# Altium footprint library stm8.PcbLib: 15 footprints
Each footprint in its own frame and in the unit in brackets; x right, y up, seen from the top. Pads: shape width x height; smd on the part's side, far side on the other; paste and mask are expansions set on the pad; w line width, h text height; cw(c..) or ccw(c..) is an arc to the next point about the centre after c.
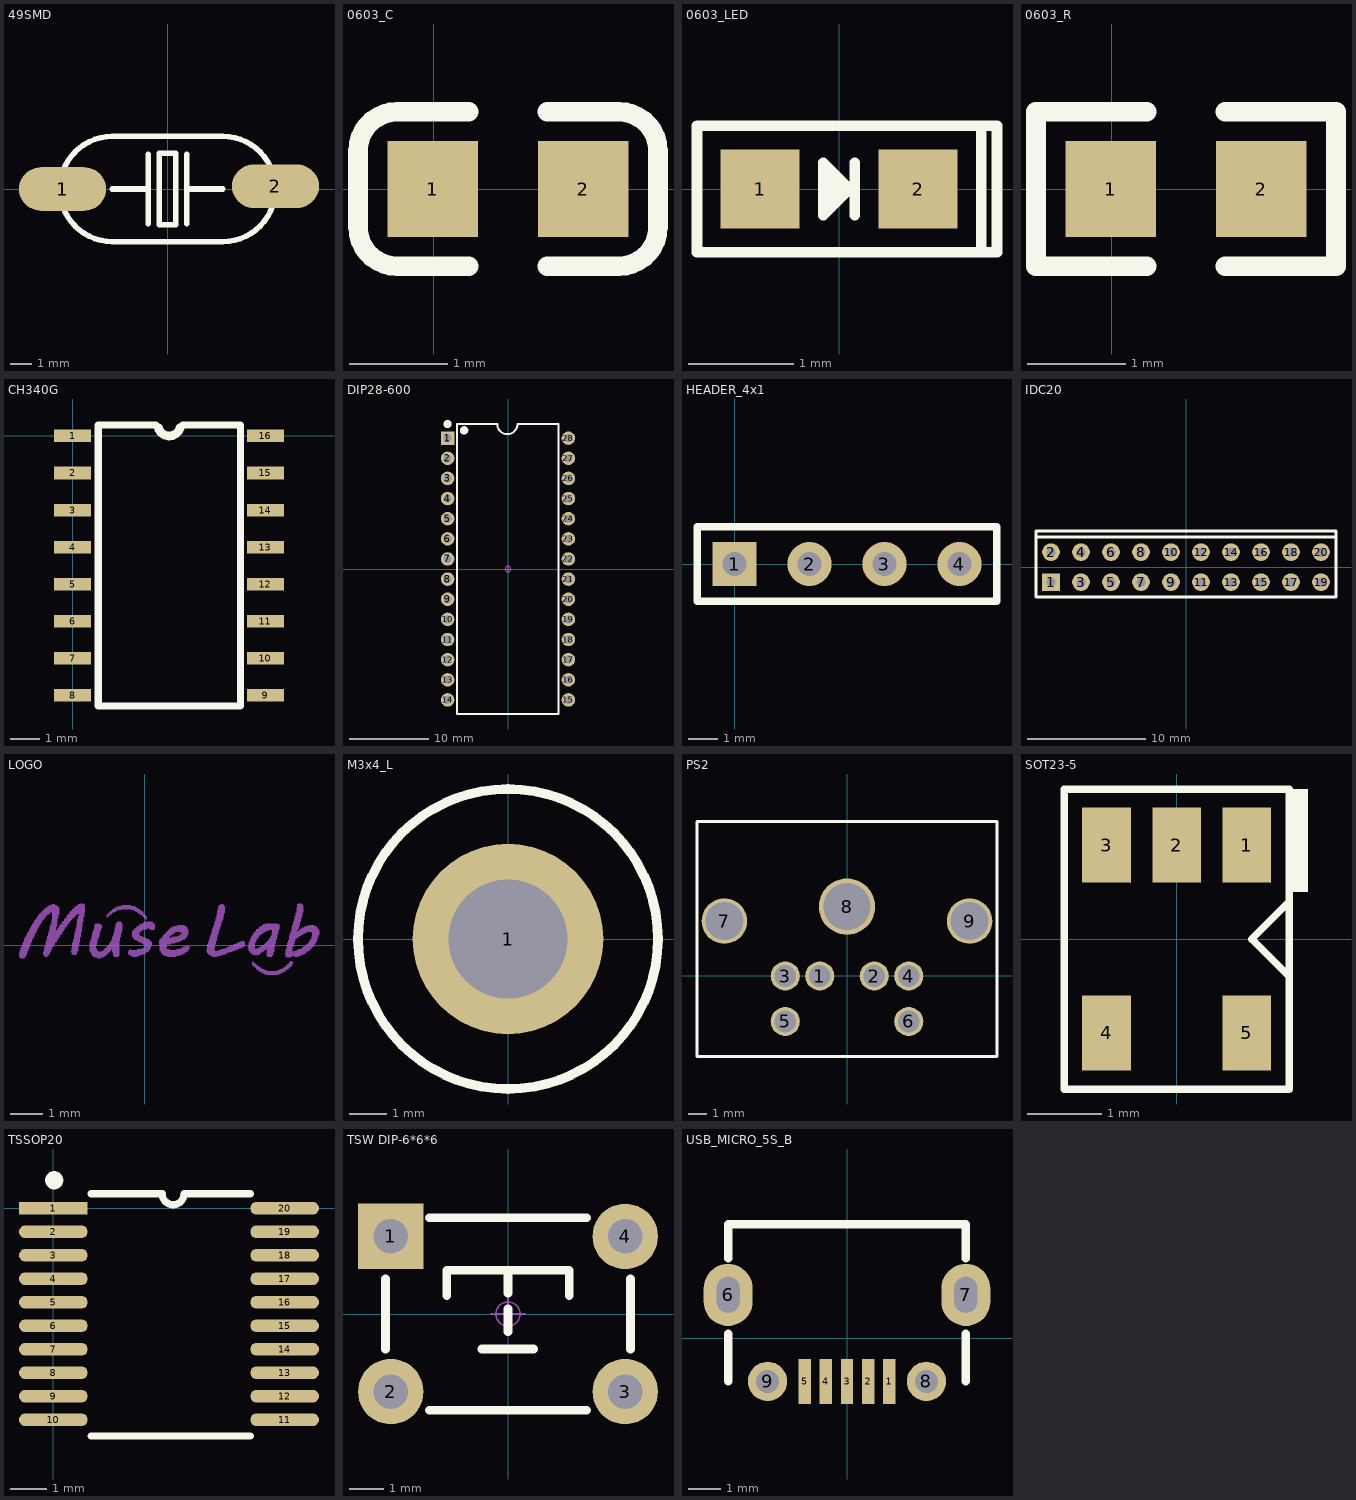
[diagram p0: the footprints below, top view; thin cyan lines are the x and y axes]

## 49SMD [mm]
pads (2):
  oval 4x2 smd: 1(-4.826,0) 2(4.953,0.127)
Top Overlay:
  lines w0.254: -2.54,0 -0.889,0 ; -0.889,-1.606 -0.889,1.606 ; 0.889,-1.606 0.889,1.606 ; 0.889,0 2.54,0 ; -2.54,-2.413 cw(c-2.54,0) -2.54,2.413 2.54,2.413 cw(c2.54,0) 2.54,-2.413 -2.54,-2.413 ; -0.381,-1.651 -0.381,1.651 0.381,1.651 0.381,-1.651 -0.381,-1.651

## 0603_C [mm]
pads (2):
  rect 0.93x0.98 smd: 1(-0.008,0) 2(1.532,0)
Top Overlay:
  lines w0.2: 0.362,-0.79 -0.373,-0.79 cw(c-0.373,-0.39) -0.773,-0.39 -0.773,0.39 cw(c-0.373,0.39) -0.373,0.79 0.362,0.79 ; 1.162,-0.79 1.897,-0.79 ccw(c1.897,-0.39) 2.297,-0.39 2.297,0.39 ccw(c1.897,0.39) 1.897,0.79 1.162,0.79
3D body "User Library-0603 SMD Capacitor.STEP": height 0.3, standoff 0, extent -0.038,-0.4 1.562,0.4

## 0603_LED [mm]
pads (2):
  rect 0.75x0.75 smd: 1(-0.75,0) 2(0.75,0)
Top Overlay:
  region: -0.15,0.25 -0.15,-0.25 0.1,0
  lines w0.1: 0.15,-0.25 0.15,0.25 ; 0.15,-0.05 -0.15,0.25 -0.15,-0.25 0.15,0.05 ; 1.35,-0.6 1.35,0.6 ; 1.35,-0.6 -1.35,-0.6 -1.35,0.6 1.35,0.6 ; 1.35,-0.6 1.5,-0.6 1.5,0.6 1.35,0.6

## 0603_R [mm]
pads (2):
  rect 0.93x0.98 smd: 1(-0.008,0) 2(1.532,0)
Top Overlay:
  lines w0.2: 0.362,-0.79 -0.773,-0.79 -0.773,0.79 0.362,0.79 ; 1.162,-0.79 2.297,-0.79 2.297,0.79 1.162,0.79
3D body "User Library-RES_1609-0603.STEP": height 0.56, standoff 0, extent -0.088,-0.4 1.612,0.4

## CH340G [mm]
height 8.2
pads (16):
  rect 1.27x0.43 smd: 1(0,0) 2(0,-1.27) 3(0,-2.54) 4(0,-3.81) 5(0,-5.08) 6(0,-6.35) 7(0,-7.62) 8(0,-8.89) 9(6.6,-8.89) 10(6.6,-7.62) 11(6.6,-6.35) 12(6.6,-5.08) 13(6.6,-3.81) 14(6.6,-2.54) 15(6.6,-1.27) 16(6.6,0)
Top Overlay:
  lines w0.254: 2.938,0.278 2.841,0.375 0.875,0.375 0.875,-9.25 5.75,-9.25 5.75,0.375 3.774,0.375 3.674,0.275
  lines w0.3: 2.938,0.278 ccw(c3.3,0.375) 3.3,0 ccw(c3.313,0.375) 3.674,0.275

## DIP28-600 [mm] "37.3*15.3*4长宽高）"
pads (28):
  rect 1.7x1.7 hole 1: 1(-7.62,16.51)
  round 1.7 hole 1: 2(-7.62,13.97) 3(-7.62,11.43) 4(-7.62,8.89) 5(-7.62,6.35) 6(-7.62,3.81) 7(-7.62,1.27) 8(-7.62,-1.27) 9(-7.62,-3.81) 10(-7.62,-6.35) 11(-7.62,-8.89) 12(-7.62,-11.43) 13(-7.62,-13.97) 14(-7.62,-16.51) 15(7.62,-16.51) 16(7.62,-13.97) 17(7.62,-11.43) 18(7.62,-8.89) 19(7.62,-6.35) 20(7.62,-3.81) 21(7.62,-1.27) 22(7.62,1.27) 23(7.62,3.81) 24(7.62,6.35) 25(7.62,8.89) 26(7.62,11.43) 27(7.62,13.97) 28(7.62,16.51)
Top Overlay:
  circle w0.8: c-5.537,17.49 r0.127
  circle w0.508: c-7.62,18.288 r0.254
  lines w0.254: -6.46,18.277 -6.46,-18.288 6.35,-18.288 6.35,18.288 1.185,18.288 cw(c-0.085,18.288) -1.355,18.288 -6.435,18.288
Mechanical 15:
  circle w0.05: c0,0 r0.35
  lines w0.05: -0.5,0 0.5,0 ; 0,-0.5 0,0.5
3D body "DIP28-600.STEP": height 4.7, standoff -3.2, extent -7.78,-18.65 7.78,18.65

## HEADER_4x1 [mm]
pads (4):
  rect 1.5x1.5 hole 0.8: 1(0,0)
  round 1.5 hole 0.8: 2(2.54,0) 3(5.08,0) 4(7.62,0)
Top Overlay:
  lines w0.254: -1.27,-1.27 -1.27,1.27 8.89,1.27 8.89,-1.27 -1.27,-1.27

## IDC20 [mm]
pads (20):
  rect 1.5x1.5 hole 0.8: 1(-11.43,-1.27)
  round 1.5 hole 0.8: 2(-11.43,1.27) 3(-8.89,-1.27) 4(-8.89,1.27) 5(-6.35,-1.27) 6(-6.35,1.27) 7(-3.81,-1.27) 8(-3.81,1.27) 9(-1.27,-1.27) 10(-1.27,1.27) 11(1.27,-1.27) 12(1.27,1.27) 13(3.81,-1.27) 14(3.81,1.27) 15(6.35,-1.27) 16(6.35,1.27) 17(8.89,-1.27) 18(8.89,1.27) 19(11.43,-1.27) 20(11.43,1.27)
Top Overlay:
  lines w0.254: 12.7,3.048 12.7,2.54 ; 12.7,3.07 -12.7,3.07 -12.7,2.54 ; -12.7,2.54 12.7,2.54 ; -12.7,2.54 -12.7,-2.54 12.7,-2.54 12.7,2.54

## LOGO [mm]
Top Solder:
  drawing of 685 lines, arcs and shapes, not listed

## M3x4_L [mm] "M3铜柱，长：4mm"
pads (1):
  round 5.08 hole 3.175: 1(0,0)
Top Overlay:
  circle w0.254: c0,0 r4
3D body "M3x4.STEP": height 4.05, standoff 0.05, extent -2.698,-2.35 2.698,2.35

## PS2 [mm]
pads (9):
  round 1.6 hole 1.2: 1(-1.5,-0.02) 2(1.5,-0.02) 3(-3.4,-0.02) 4(3.4,-0.02) 5(-3.4,-2.52) 6(3.4,-2.52)
  round 2.5 hole 2.1: 7(-6.75,3) 9(6.75,3)
  round 3.1 hole 2.6: 8(0,3.8)
Top Overlay:
  lines w0.152: -8.255,-4.445 -8.255,8.48 8.255,8.48 8.255,-4.445 -8.255,-4.445

## SOT23-5 [mil]
height 47.24
pads (5):
  rect 26x40 smd: 1(37.4,50) 2(0,50) 3(-37.4,50) 4(-37.4,-50) 5(37.4,-50)
Top Overlay:
  rectangle: 60,25 70,80
  lines w4: 60,-20 40,0 60,20 ; -60,-80 -60,80 60,80 60,-80 -60,-80

## TSSOP20 [mm] "20-pin, 4.40 mm body, 0.65 mm pitch"
height 1.1
pads (20):
  rect 1.9x0.356 smd: 1(0,0)
  oval 1.9x0.356 smd: 2(0,-0.65) 3(0,-1.3) 4(0,-1.95) 5(0,-2.6) 6(0,-3.25) 7(0,-3.9) 8(0,-4.55) 9(0,-5.2) 10(0,-5.85) 11(6.4,-5.85) 12(6.4,-5.2) 13(6.4,-4.55) 14(6.4,-3.9) 15(6.4,-3.25) 16(6.4,-2.6) 17(6.4,-1.95) 18(6.4,-1.3) 19(6.4,-0.65) 20(6.4,0)
Top Overlay:
  circle w0.25: c0.025,0.775 r0.125
  lines w0.2: 3.01,0.4 ccw(c3.313,0.4) 3.615,0.4
  lines w0.203: 1.05,-6.3 5.45,-6.3 ; 1.05,0.4 1.525,0.4 2.475,0.4 2.95,0.4 ; 3.65,0.4 5.45,0.4

## TSW DIP-6*6*6 [mm] "6*6*6mm"
pads (4):
  rect 1.9x1.9 hole 1: 1(-3.4,2.25)
  round 1.9 hole 1: 2(-3.4,-2.25) 3(3.4,-2.25) 4(3.4,2.25)
Top Overlay:
  lines w0.254: -3.556,-1.016 -3.556,1.016 ; -2.286,-2.794 2.286,-2.794 ; -2.286,2.794 2.286,2.794 ; -1.778,0.533 -1.778,1.27 1.778,1.27 1.778,0.533 ; -0.762,-1.016 0.737,-1.016 ; 0,-0.508 0,0.152 ; 0,0.61 0,1.27 ; 3.556,-1.016 3.556,1.016
Bottom Overlay:
  lines w0.254: -2.286,-2.286 2.286,-2.286 ; -2.286,2.286 2.286,2.286
Mechanical 15:
  circle w0.05: c0,0 r0.35
  lines w0.05: -0.5,0 0.5,0 ; 0,-0.5 0,0.5
3D body "TSW DIP-6x6x6.STEP": height 5.95, standoff -3.45, extent -4.106,-3 4.106,3

## USB_MICRO_5S_B [mil]
pads (9):
  rect 15x54 smd: 1(51,-52) 2(25.5,-52) 3(0,-52) 4(-25.5,-52) 5(-51,-52)
  oval 59.06x74.8 hole 27.56 slot 43.31 at 90 deg: 6(-143,52) 7(143,52)
  round 47.24 hole 27.5: 8(95.5,-52) 9(-95.5,-52)
Top Overlay:
  lines w10: -142.72,-52 -142.72,5.28 ; -142.72,95.72 -142.72,136.98 142.72,136.98 142.72,95.72 ; 142.72,-52 142.72,5.28
3D body "User Library-Micro USB-B_Molex_105017-0001.step": height 105.31, standoff -24.61, extent -161.42,-61.33 161.41,152.44